# EAGLE library part ADG804 (library OrlandoRonMod)
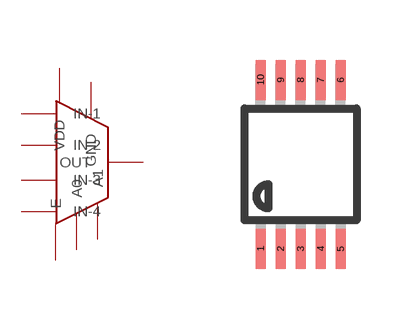
[diagram p4: symbol with the pads of MSOP10; footprint MSOP10]

Designator prefix -

## ADG804  [MSOP10]
1  A0
2  IN-1
3  GND
4  IN-3
5  E
6  VDD
7  IN-4
8  OUT
9  IN-2
10  A1

## Footprint MSOP10 (pad centres in mm)
10-Lead Mini Small Outline Package [MSOP] (RM-10) Source: http://www.analog.com/UploadedFiles/Data_Sheets/35641221898805SSM2167_b.pdf COMPLIANT TO JEDEC STANDARDS MO-187BA
smd 0.25 x 1: 1 -1,-2.113; 2 -0.5,-2.113; 3 0,-2.113; 4 0.5,-2.113; 5 1,-2.113; 6 1,2.113; 7 0.5,2.113; 8 0,2.113; 9 -0.5,2.113; 10 -1,2.113